# Altium footprint library Connectors.PcbLib: 6 footprints
Each footprint in its own frame and in the unit in brackets; x right, y up, seen from the top. Pads: shape width x height; smd on the part's side, far side on the other; paste and mask are expansions set on the pad; w line width, h text height; cw(c..) or ccw(c..) is an arc to the next point about the centre after c.
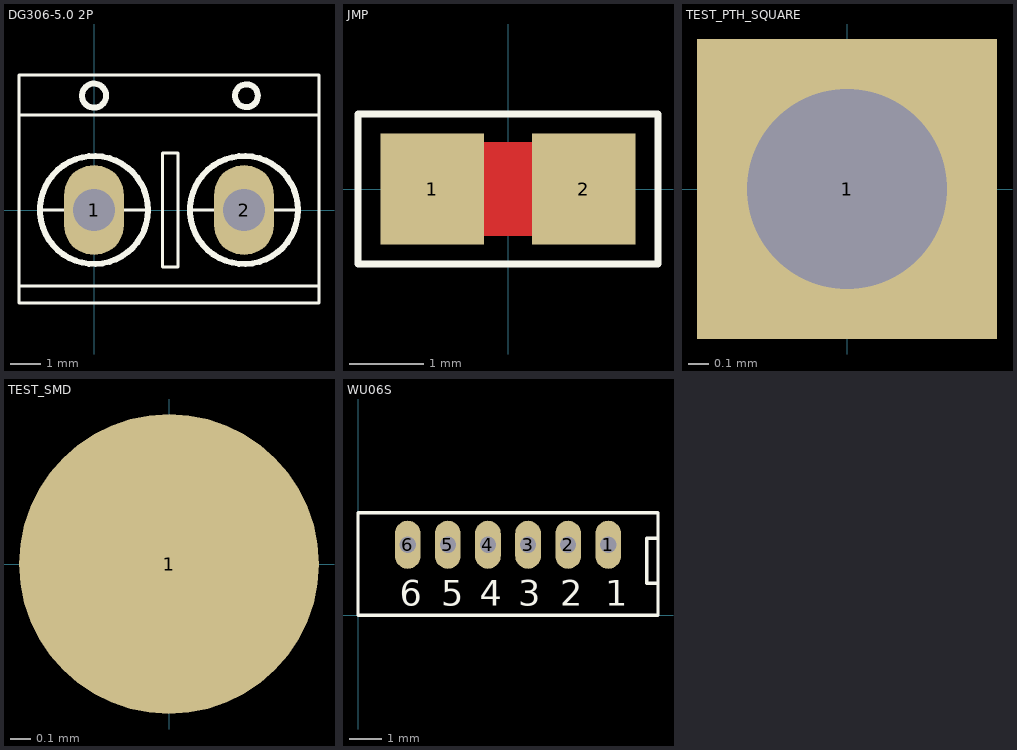
[diagram p0: the footprints below, top view; thin cyan lines are the x and y axes]

## DG306-5.0 2P [mm]
height 10
pads (2):
  rrect100% 2x3 hole 1.4: 1(0,0) 2(5,0)
Top Overlay:
  circle w0.2: c0,0 r1.8
  circle w0.2: c5,0 r1.8
  circle w0.2: c5.08,3.81 r0.381
  circle w0.2: c0,3.81 r0.402
  lines w0.1: -2.5,-2.54 7.493,-2.54 ; -2.5,3.175 7.5,3.175 ; -1.778,0 1.8,0 ; 3.175,0 6.8,0 ; -2.5,-3.1 -2.5,4.5 7.5,4.5 7.5,-3.1 -2.5,-3.1 ; 2.286,-1.905 2.286,1.905 2.794,1.905 2.794,-1.905 2.286,-1.905

## JMP [mm] "SMD Solder Jumper"
pads (2):
  rect 1.4x1.5 smd: 1(-1.025,0) 2(1.025,0)
Top Layer:
  lines w1.27: -1.025,0 1.025,0
Top Overlay:
  lines w0.1: -2.032,-1.016 2.032,-1.016 2.032,1.016 -2.032,1.016 -2.032,0.557 -2.032,-1.016

## PCBComponent_1 [mm]

## TEST_PTH_SQUARE [mm] "Square 1.5mm PTH test pad"
pads (1):
  rect 1.5x1.5 hole 1: 1(0,0)

## TEST_SMD [mm] "Round 1.5mm SMD test pad"
pads (1):
  round 1.5 smd: 1(0,0)

## WU06S [mm]
height 4.2
pads (6):
  oval 0.8x1.5 hole 0.5: 1(7.8,2.2) 2(6.55,2.2) 3(5.3,2.2) 4(4.05,2.2) 5(2.8,2.2) 6(1.55,2.2)
Top Overlay:
  lines w0.1: 9.35,1 9,1 9,2.4 9.35,2.4 ; 0,0 9.35,0 9.35,3.2 0,3.2 0,0
  text "1" at 7.7,0.3 h0.8
  text "2" at 6.3,0.3 h0.8
  text "3" at 5,0.3 h0.8
  text "4" at 3.8,0.3 h0.8
  text "5" at 2.6,0.3 h0.8
  text "6" at 1.3,0.3 h0.8